# EAGLE library part IC_TTL_74_138 (library mylib_20130829)
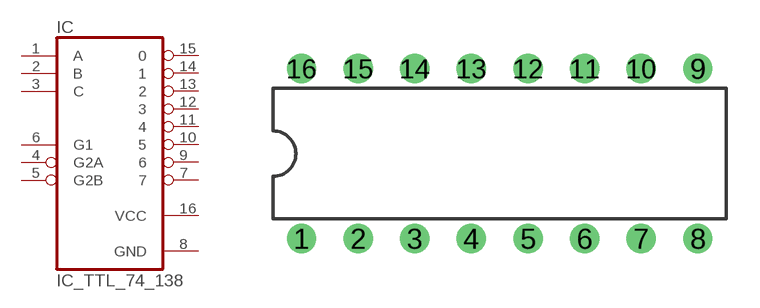
[diagram p80: symbol with the pads of IC_SOCKET_DIL_16; footprint IC_SOCKET_DIL_16]

Designator prefix IC

## IC_TTL_74_138_DIP  [IC_SOCKET_DIL_16]
1  A  in
2  B  in
3  C  in
4  G2A  in
5  G2B  in
6  G1  in
7  7  out
8  GND  pwr
9  6  out
10  5  out
11  4  out
12  3  out
13  2  out
14  1  out
15  0  out
16  VCC  pwr

## Footprint IC_SOCKET_DIL_16 (pad centres in mm)
Dual In Line Package
drill 0.813: 1 -8.89,-3.81; 2 -6.35,-3.81; 3 -3.81,-3.81; 4 -1.27,-3.81; 5 1.27,-3.81; 6 3.81,-3.81; 7 6.35,-3.81; 8 8.89,-3.81; 9 8.89,3.81; 10 6.35,3.81; 11 3.81,3.81; 12 1.27,3.81; 13 -1.27,3.81; 14 -3.81,3.81; 15 -6.35,3.81; 16 -8.89,3.81